# EAGLE library part TCA9584A (library FaBo-Multiplexers)
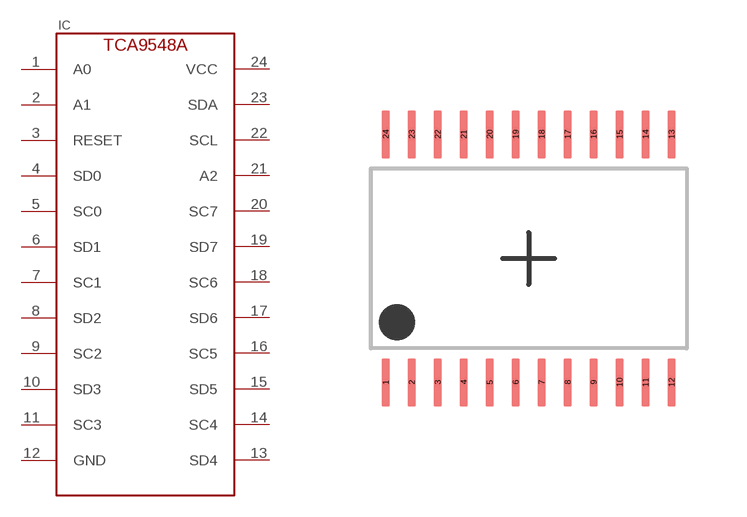
[diagram p1: symbol with the pads of TSSOP-24; footprint TSSOP-24]

Designator prefix IC

## TCA9584A  [TSSOP-24]
1  A0
2  A1
3  RESET
4  SD0
5  SC0
6  SD1
7  SC1
8  SD2
9  SC2
10  SD3
11  SC3
12  GND
13  SD4
14  SC4
15  SD5
16  SC5
17  SD6
18  SC6
19  SD7
20  SC7
21  A2
22  SCL
23  SDA
24  VCC

## Footprint TSSOP-24 (pad centres in mm)
smd 0.2 x 1.2: 1 -3.575,-3.1; 2 -2.925,-3.1; 3 -2.275,-3.1; 4 -1.625,-3.1; 5 -0.975,-3.1; 6 -0.325,-3.1; 7 0.325,-3.1; 8 0.975,-3.1; 9 1.625,-3.1; 10 2.275,-3.1; 11 2.925,-3.1; 12 3.575,-3.1; 13 3.575,3.1; 14 2.925,3.1; 15 2.275,3.1; 16 1.625,3.1; 17 0.975,3.1; 18 0.325,3.1; 19 -0.325,3.1; 20 -0.975,3.1; 21 -1.625,3.1; 22 -2.275,3.1; 23 -2.925,3.1; 24 -3.575,3.1